# EAGLE library part AC108 (library X-Power)
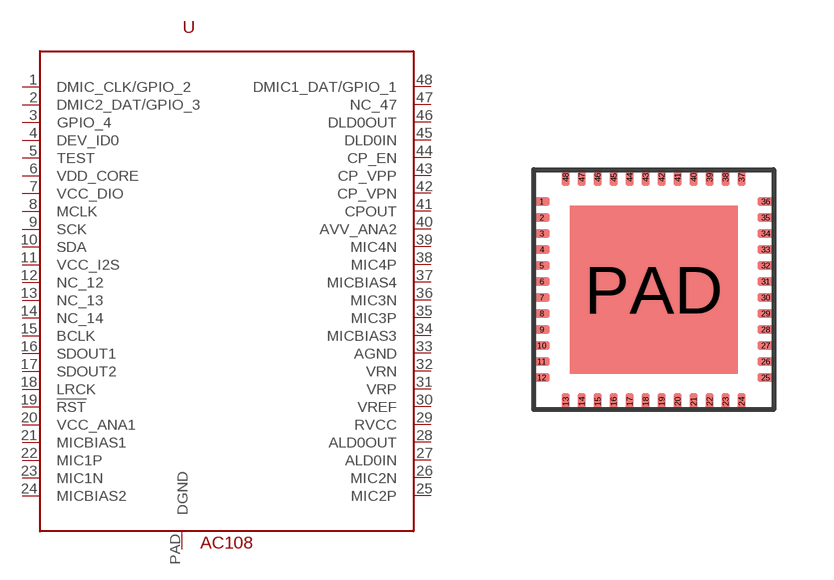
[diagram p0: symbol with the pads of QFN48-6X6; footprint QFN48-6X6]

Designator prefix -

## AC108  [QFN48-6X6]
1  DMIC_CLK/GPIO_2
2  DMIC2_DAT/GPIO_3
3  GPIO_4
4  DEV_ID0
5  TEST
6  VDD_CORE
7  VCC_DIO
8  MCLK
9  SCK
10  SDA
11  VCC_I2S
12  NC_12
13  NC_13
14  NC_14
15  BCLK
16  SDOUT1
17  SDOUT2
18  LRCK
19  !RST
20  VCC_ANA1
21  MICBIAS1
22  MIC1P
23  MIC1N
24  MICBIAS2
25  MIC2P
26  MIC2N
27  ALD0IN
28  ALD0OUT
29  RVCC
30  VREF
31  VRP
32  VRN
33  AGND
34  MICBIAS3
35  MIC3P
36  MIC3N
37  MICBIAS4
38  MIC4P
39  MIC4N
40  AVV_ANA2
41  CPOUT
42  CP_VPN
43  CP_VPP
44  CP_EN
45  DLD0IN
46  DLD0OUT
47  NC_47
48  DMIC1_DAT/GPIO_1
PAD  DGND

## Footprint QFN48-6X6 (pad centres in mm)
smd 0.4 x 0.2: 1 -2.8,2.2; 2 -2.8,1.8; 3 -2.8,1.4; 4 -2.8,1; 5 -2.8,0.6; 6 -2.8,0.2; 7 -2.8,-0.2; 8 -2.8,-0.6; 9 -2.8,-1; 10 -2.8,-1.4; 11 -2.8,-1.8; 12 -2.8,-2.2; 25 2.8,-2.2; 26 2.8,-1.8; 27 2.8,-1.4; 28 2.8,-1; 29 2.8,-0.6; 30 2.8,-0.2; 31 2.8,0.2; 32 2.8,0.6; 33 2.8,1; 34 2.8,1.4; 35 2.8,1.8; 36 2.8,2.2
smd 0.2 x 0.4: 13 -2.2,-2.8; 14 -1.8,-2.8; 15 -1.4,-2.8; 16 -1,-2.8; 17 -0.6,-2.8; 18 -0.2,-2.8; 19 0.2,-2.8; 20 0.6,-2.8; 21 1,-2.8; 22 1.4,-2.8; 23 1.8,-2.8; 24 2.2,-2.8; 37 2.2,2.8; 38 1.8,2.8; 39 1.4,2.8; 40 1,2.8; 41 0.6,2.8; 42 0.2,2.8; 43 -0.2,2.8; 44 -0.6,2.8; 45 -1,2.8; 46 -1.4,2.8; 47 -1.8,2.8; 48 -2.2,2.8
smd 4.2 x 4.2: PAD 0,0